# EAGLE library part PINHD-1X13 (library pinhead+)
PIN HEADER
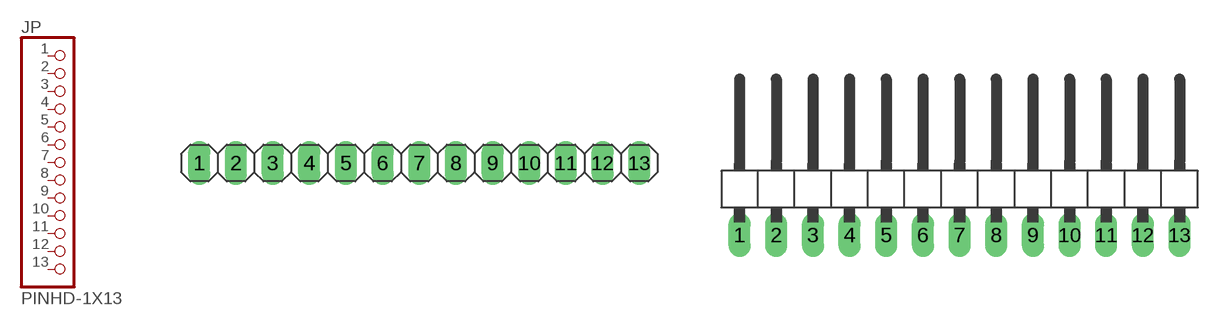
[diagram p7: symbol with the pads of 1X13; footprints 1X13, 1X13/90]

Designator prefix JP

## PINHD-1X13  [1X13]
1  1  pas
2  2  pas
3  3  pas
4  4  pas
5  5  pas
6  6  pas
7  7  pas
8  8  pas
9  9  pas
10  10  pas
11  11  pas
12  12  pas
13  13  pas

## PINHD-1X13/90  [1X13/90]
Pads as for 1X13

## PINHD-1X131X13_SMT  [1X13_SMT]
Pads as for 1X13

## Footprint 1X13 (pad centres in mm)
PIN HEADER
drill 1.016 long: 1 -15.24,0; 2 -12.7,0; 3 -10.16,0; 4 -7.62,0; 5 -5.08,0; 6 -2.54,0; 7 0,0; 8 2.54,0; 9 5.08,0; 10 7.62,0; 11 10.16,0; 12 12.7,0; 13 15.24,0

## Footprint 1X13/90 (pad centres in mm)
PIN HEADER
drill 1.016 long: 1 -15.24,-3.81; 2 -12.7,-3.81; 3 -10.16,-3.81; 4 -7.62,-3.81; 5 -5.08,-3.81; 6 -2.54,-3.81; 7 0,-3.81; 8 2.54,-3.81; 9 5.08,-3.81; 10 7.62,-3.81; 11 10.16,-3.81; 12 12.7,-3.81; 13 15.24,-3.81

## Footprint 1X13_SMT (pad centres in mm)
smd 1 x 2.5: 1 -15.24,1.52; 2 -12.7,-1.52; 3 -10.16,1.52; 4 -7.62,-1.52; 5 -5.08,1.52; 6 -2.54,-1.52; 7 0,1.52; 8 2.54,-1.52; 9 5.08,1.52; 10 7.62,-1.52; 11 10.16,1.52; 12 12.7,-1.52; 13 15.24,1.52